# Altium schematic symbol library LM555CN_NOPB.SchLib: 1 symbol
Pins are listed as number, name and electrical type; pins without a type are passive.

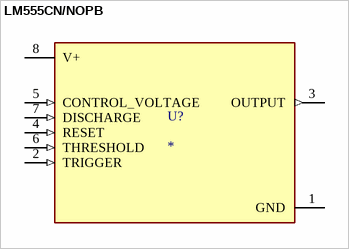
[diagram p0: symbol LM555CN/NOPB]

## LM555CN/NOPB
designator U?
Highly Stable 555 Timer; MF: Texas Instruments; MP: LM555CN/NOPB; SnapEDA_Link: https://www.snapeda.com/parts/LM555CN/NOPB/Texas+Instruments/view-part/?ref=snap; Package: PDIP-8 Texas; Value: *; Check_prices: https://www.snapeda.com/parts/LM555CN/NOPB/Texas+Instruments/view-part/?ref=eda
footprint DIP794W45P254L959H508Q8
pins: 1 GND (power), 2 TRIGGER (in), 3 OUTPUT (out), 4 RESET (in), 5 CONTROL_VOLTAGE (in), 6 THRESHOLD (in), 7 DISCHARGE (in), 8 V+ (power)